# Altium footprint library 2403 263 00052.PcbLib: 1 footprints
Each footprint in its own frame and in the unit in brackets; x right, y up, seen from the top. Pads: shape width x height; smd on the part's side, far side on the other; paste and mask are expansions set on the pad; w line width, h text height; cw(c..) or ccw(c..) is an arc to the next point about the centre after c.
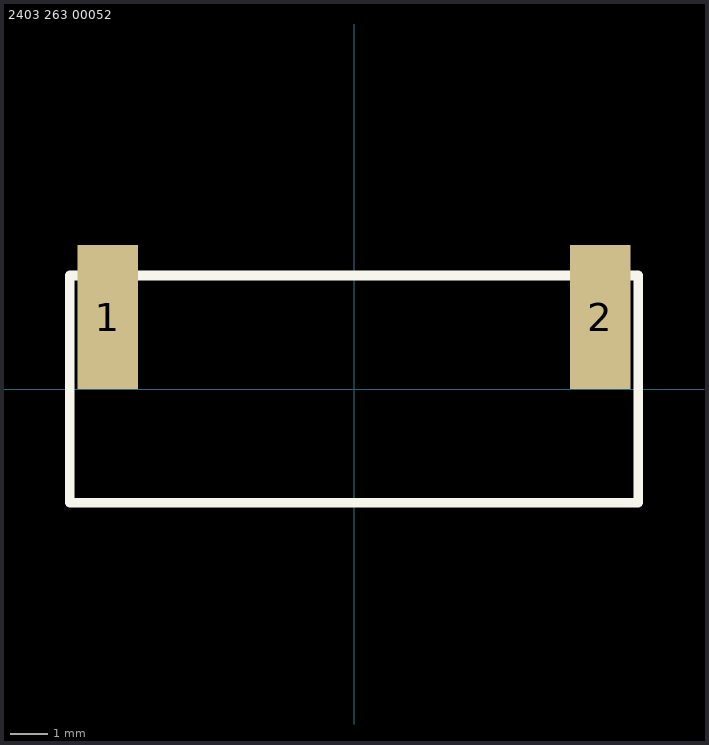
[diagram p0: the footprint, top view; thin cyan lines are the x and y axes]

## 2403 263 00052 [mm]
pads (2):
  rect 1.6x3.8 smd: 1(-6.5,1.9) 2(6.5,1.9)
Top Overlay:
  lines w0.254: -7.5,-3 -7.5,3 7.5,3 7.5,-3 0,-3 -7.5,-3
3D body: height 2.5, standoff 0, extent -7.5,-3 7.5,3